# EAGLE library part TRACO_TEN_40_1220 (library Robot)
TRACO POWER TEN 40-1220 DC/DC Converter 40W. Vin: 9-18V, Vout1: 3.3V, Vout2: 5V
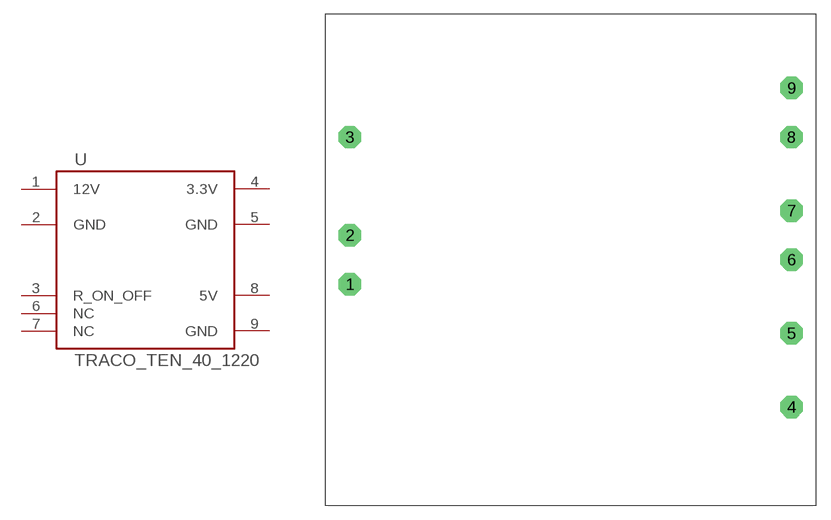
[diagram p3: symbol with the pads of TRACO_TEN_40_1220; footprint TRACO_TEN_40_1220]

Designator prefix -

## TRACO_TEN_40_1220_STD  [TRACO_TEN_40_1220]
1  12V  pwr
2  GND  pwr
3  R_ON_OFF
4  3.3V  pwr
5  GND  pwr
6  NC  nc
7  NC  nc
8  5V  pwr
9  GND  pwr

## Footprint TRACO_TEN_40_1220 (pad centres in mm)
TRACO POWER TEN 40-1220
drill 1.55 octagon: 1 -22.86,-2.54; 2 -22.86,2.54; 3 -22.86,12.7; 4 22.86,-15.24; 5 22.86,-7.62; 6 22.86,0; 7 22.86,5.08; 8 22.86,12.7; 9 22.86,17.78